# Altium schematic symbol library 0603 62K.Schlib: 1 symbol
Pins are listed as number, name and electrical type; pins without a type are passive.

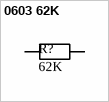
[diagram p0: symbol 0603 62K]

## 0603 62K
designator R?, comment value 62K  (hidden comment: Resistor)
±1% 62kΩ ±100ppm/℃ 0.1W 0603 Chip Resistor - Surface Mount ROHS; LCSC Part #: C23221
footprint RES 0603_1608 (Chip Resistor, 2-Leads, Body 1.60x0.80mm, IPC Medium Density)
pins: 1, 2